# Altium footprint library 1727-4692-1-ND_NMOS.PcbLib: 1 footprints
Each footprint in its own frame and in the unit in brackets; x right, y up, seen from the top. Pads: shape width x height; smd on the part's side, far side on the other; paste and mask are expansions set on the pad; w line width, h text height; cw(c..) or ccw(c..) is an arc to the next point about the centre after c.
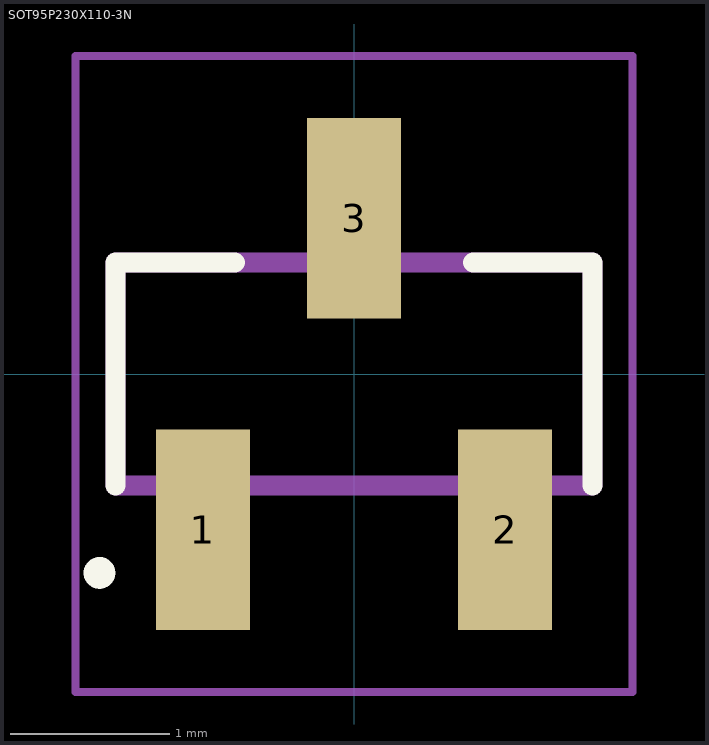
[diagram p0: the footprint, top view; thin cyan lines are the x and y axes]

## SOT95P230X110-3N [mm]
pads (3):
  rect 0.59x1.26 smd: 1(-0.95,-0.98) 2(0.95,-0.98) 3(0,0.98)
Top Overlay:
  circle w0.1: c-1.6,-1.25 r0.05
  lines w0.127: -1.5,-0.7 -1.5,0.7 -0.75,0.7 ; 0.75,0.7 1.5,0.7 1.5,-0.7
Mechanical 1:
  lines w0.05: -1.75,-2 -1.75,2 1.75,2 1.75,-2 -1.75,-2
  lines w0.127: -1.5,-0.7 1.5,-0.7 1.5,0.7 -1.5,0.7 -1.5,-0.7